# Altium footprint library FUSE_3568.PcbLib: 1 footprints
Each footprint in its own frame and in the unit in brackets; x right, y up, seen from the top. Pads: shape width x height; smd on the part's side, far side on the other; paste and mask are expansions set on the pad; w line width, h text height; cw(c..) or ccw(c..) is an arc to the next point about the centre after c.
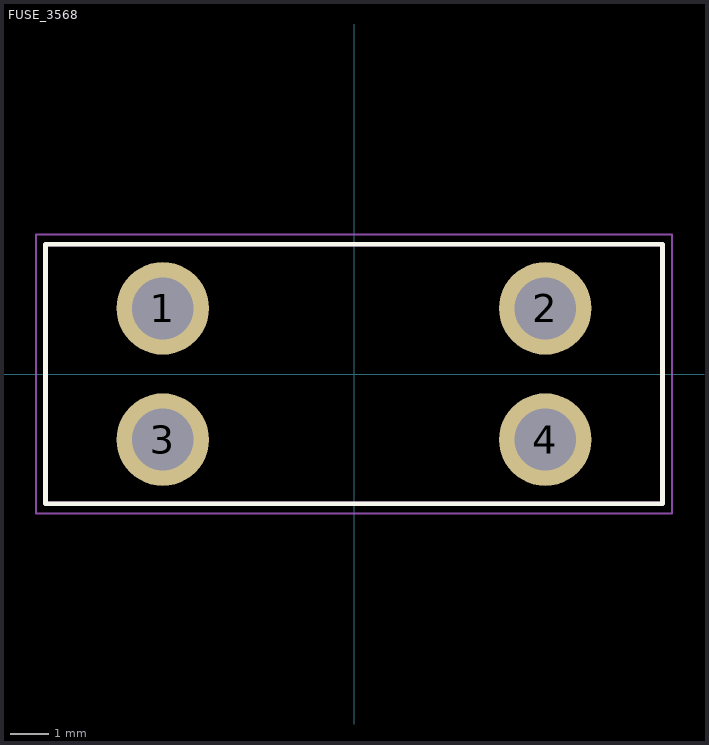
[diagram p0: the footprint, top view; thin cyan lines are the x and y axes]

## FUSE_3568 [mm]
height 7.37
pads (4):
  round 2.4 hole 1.6: 1(-4.96,1.7) 2(4.96,1.7) 3(-4.96,-1.7) 4(4.96,-1.7)
Top Overlay:
  lines w0.127: -8,-3.365 8,-3.365 8,3.365 -8,3.365 -8,-3.365
Assembly Top:
  lines w0.127: -8,-3.365 8,-3.365 8,3.365 -8,3.365 -8,-3.365
Courtyard Top:
  lines w0.05: -8.25,-3.615 8.25,-3.615 8.25,3.615 -8.25,3.615 -8.25,-3.615
3D body "step_temp.STEP": height 2.36, standoff -7.8, extent -6.901,-3.686 9.101,3.045